# EAGLE library part MCP1725 (library NicShackle)
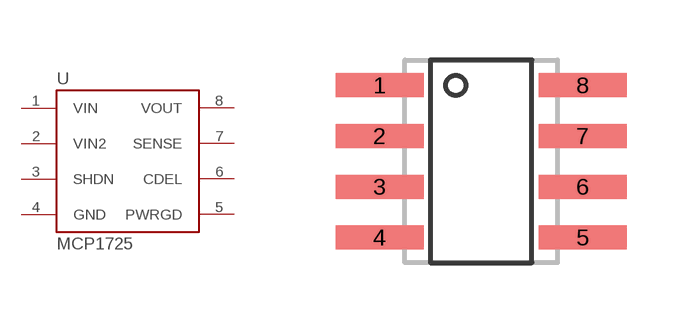
[diagram p1: symbol with the pads of SOIC-8; footprint SOIC-8]

Designator prefix -

## MCP1725-SMD  [SOIC-8]
1  VIN
2  VIN2
3  SHDN
4  GND
5  PWRGD
6  CDEL
7  SENSE
8  VOUT

## Footprint SOIC-8 (pad centres in mm)
smd 2.2 x 0.6: 1 -2.54,1.27; 2 -2.54,0; 3 -2.54,-1.27; 4 -2.54,-2.54; 5 2.54,-2.54; 6 2.54,-1.27; 7 2.54,0; 8 2.54,1.27